# Altium footprint library 400101.PcbLib: 19 footprints (part 1 of 2)
Each footprint in its own frame and in the unit in brackets; x right, y up, seen from the top. Pads: shape width x height; smd on the part's side, far side on the other; paste and mask are expansions set on the pad; w line width, h text height; cw(c..) or ccw(c..) is an arc to the next point about the centre after c.
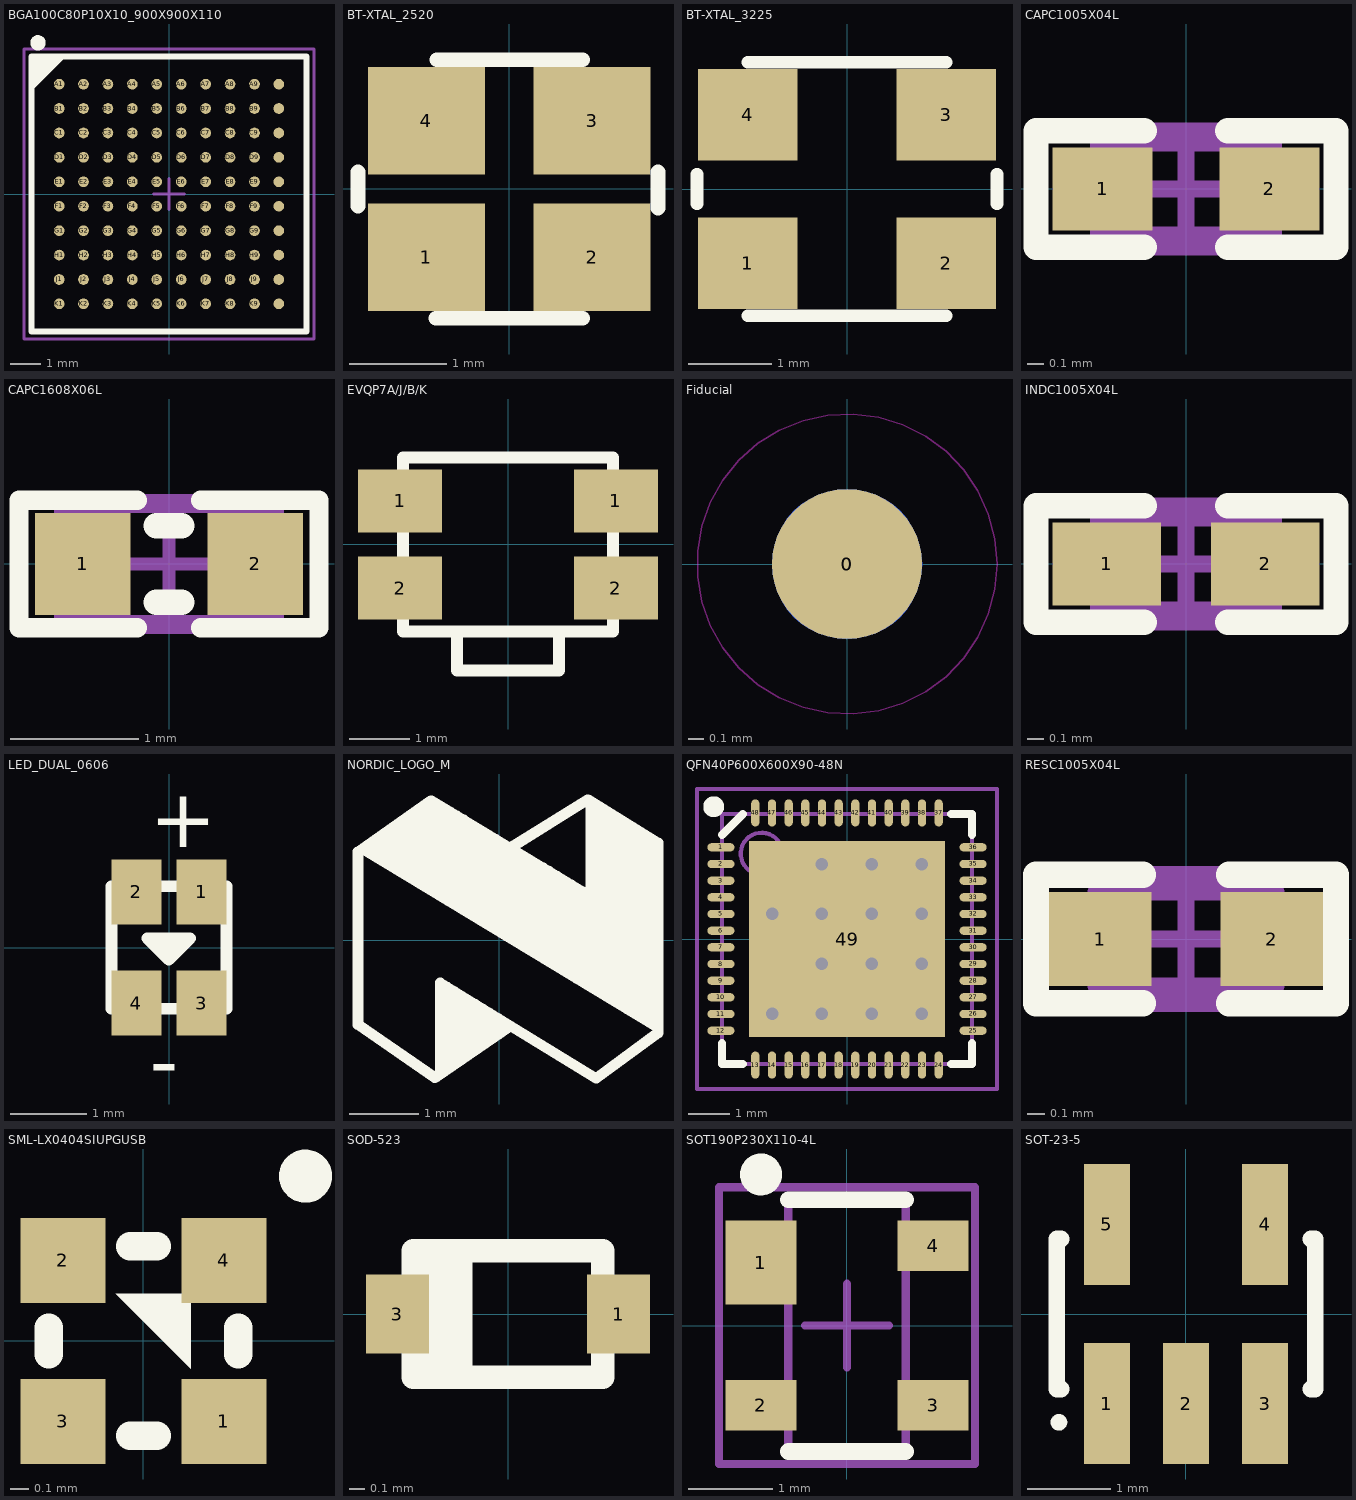
[diagram p0: the footprints below, top view; thin cyan lines are the x and y axes]

## BGA100C80P10X10_900X900X110 [mm]
pads (100):
  round 0.35 smd: A1(-3.6,3.6) A2(-2.8,3.6) A3(-2,3.6) A4(-1.2,3.6) A5(-0.4,3.6) A6(0.4,3.6) A7(1.2,3.6) A8(2,3.6) A9(2.8,3.6) A10(3.6,3.6) B1(-3.6,2.8) B2(-2.8,2.8) B3(-2,2.8) B4(-1.2,2.8) B5(-0.4,2.8) B6(0.4,2.8) B7(1.2,2.8) B8(2,2.8) B9(2.8,2.8) B10(3.6,2.8) C1(-3.6,2) C2(-2.8,2) C3(-2,2) C4(-1.2,2) C5(-0.4,2) C6(0.4,2) C7(1.2,2) C8(2,2) C9(2.8,2) C10(3.6,2) D1(-3.6,1.2) D2(-2.8,1.2) D3(-2,1.2) D4(-1.2,1.2) D5(-0.4,1.2) D6(0.4,1.2) D7(1.2,1.2) D8(2,1.2) D9(2.8,1.2) D10(3.6,1.2) E1(-3.6,0.4) E2(-2.8,0.4) E3(-2,0.4) E4(-1.2,0.4) E5(-0.4,0.4) E6(0.4,0.4) E7(1.2,0.4) E8(2,0.4) E9(2.8,0.4) E10(3.6,0.4) F1(-3.6,-0.4) F2(-2.8,-0.4) F3(-2,-0.4) F4(-1.2,-0.4) F5(-0.4,-0.4) F6(0.4,-0.4) F7(1.2,-0.4) F8(2,-0.4) F9(2.8,-0.4) F10(3.6,-0.4) G1(-3.6,-1.2) G2(-2.8,-1.2) G3(-2,-1.2) G4(-1.2,-1.2) G5(-0.4,-1.2) G6(0.4,-1.2) G7(1.2,-1.2) G8(2,-1.2) G9(2.8,-1.2) G10(3.6,-1.2) H1(-3.6,-2) H2(-2.8,-2) H3(-2,-2) H4(-1.2,-2) H5(-0.4,-2) H6(0.4,-2) H7(1.2,-2) H8(2,-2) H9(2.8,-2) H10(3.6,-2) J1(-3.6,-2.8) J2(-2.8,-2.8) J3(-2,-2.8) J4(-1.2,-2.8) J5(-0.4,-2.8) J6(0.4,-2.8) J7(1.2,-2.8) J8(2,-2.8) J9(2.8,-2.8) J10(3.6,-2.8) K1(-3.6,-3.6) K2(-2.8,-3.6) K3(-2,-3.6) K4(-1.2,-3.6) K5(-0.4,-3.6) K6(0.4,-3.6) K7(1.2,-3.6) K8(2,-3.6) K9(2.8,-3.6) K10(3.6,-3.6)
Top Overlay:
  circle w0.25: c-4.293,4.953 r0.125
  region: -3.513,4.5 -4.5,3.513 -4.5,4.5
  lines w0.2: -4.5,3.513 -3.513,4.5 ; -4.5,-4.5 -4.5,4.5 4.5,4.5 4.5,-4.5 -4.5,-4.5
Mechanical 13:
  lines w0.1: -4.5,-4.5 -4.5,4.5 4.5,4.5 4.5,-4.5 -4.5,-4.5
Mechanical 15:
  lines w0.1: -0.5,0 0.5,0 ; 0,-0.5 0,0.5 ; -4.75,-4.75 -4.75,4.75 4.75,4.75 4.75,-4.75 -4.75,-4.75
3D body: height 1.1, standoff 0.25, extent -4.5,-4.5 4.5,4.5

## BT-XTAL_2520 [mm]
pads (4):
  rect 1.2x1.1 smd: 1(-0.85,-0.7) 2(0.85,-0.7) 3(0.85,0.7) 4(-0.85,0.7)
Top Overlay:
  lines w0.152: -1.55,-0.175 -1.55,0.175 ; -0.75,-1.325 0.75,-1.325 ; -0.74,1.325 0.75,1.325 ; 1.525,-0.195 1.525,0.175
3D body: height 0.56, standoff 0, extent -1.25,-1 1.27,1
3D body: height 0.56, standoff 0.15, extent -1.05,-0.8 1.05,0.8

## BT-XTAL_3225 [mm]
pads (4):
  rect 1.2x1.1 smd: 1(-1.194,-0.89) 2(1.194,-0.89) 3(1.194,0.891) 4(-1.194,0.891)
Top Overlay:
  lines w0.152: -1.803,-0.178 -1.803,0.178 ; -1.194,-1.524 1.194,-1.524 ; -1.194,1.524 1.194,1.524 ; 1.803,-0.178 1.803,0.178
3D body: height 0.81, standoff 0, extent -1.6,-1.25 1.614,1.25
3D body: height 0.81, standoff 0.15, extent -1.4,-1.05 1.4,1.05

## CAPC1005X04L [mm]
pads (2):
  rect 0.6x0.5 smd: 1(-0.5,0) 2(0.5,0)
Top Overlay:
  lines w0.152: -0.25,-0.35 -0.9,-0.35 -0.9,0.35 -0.25,0.35 ; 0.25,-0.35 0.9,-0.35 0.9,0.35 0.25,0.35
Mechanical 13:
  lines w0.1: -0.525,-0.275 -0.525,0.275 0.525,0.275 0.525,-0.275 -0.525,-0.275
Mechanical 15:
  lines w0.1: -0.275,0 0.275,0 ; 0,-0.275 0,0.275 ; -0.9,-0.35 0.9,-0.35 0.9,0.35 -0.9,0.35 -0.9,-0.35
3D body: height 0.5, standoff -0.01, extent -0.508,-0.254 0.508,0.254

## CAPC1608X06L [mm]
pads (2):
  rect 0.75x0.8 smd: 1(-0.675,0) 2(0.675,0)
Top Overlay:
  lines w0.152: -0.25,-0.5 -1.175,-0.5 -1.175,0.5 -0.25,0.5 ; 0.25,-0.5 1.175,-0.5 1.175,0.5 0.25,0.5
  lines w0.2: -0.1,-0.3 0.1,-0.3 ; -0.1,0.3 0.1,0.3
Mechanical 13:
  lines w0.1: -0.85,-0.45 -0.85,0.45 0.85,0.45 0.85,-0.45 -0.85,-0.45
Mechanical 15:
  lines w0.1: -0.45,0 0.45,0 ; 0,-0.45 0,0.45 ; -1.175,-0.5 1.175,-0.5 1.175,0.5 -1.175,0.5 -1.175,-0.5
3D body: height 0.8, standoff 0, extent -0.8,-0.43 0.8,0.43

## EVQP7A/J/B/K [mm]
pads (4):
  rect 1.4x1.05 smd: 1(-1.8,0.725) 1(1.8,0.725) 2(-1.8,-0.725) 2(1.8,-0.725)
Top Overlay:
  lines w0.2: -0.85,-1.45 -0.85,-2.1 0.85,-2.1 0.85,-1.45 ; -1.75,-1.45 -1.75,1.45 1.75,1.45 1.75,-1.45 -1.75,-1.45
3D body: height 1.35, standoff 0, extent -2.35,-2.1 2.35,1.45

## Fiducial [mm]
pads (2):
  round 1 smd paste-10 mask+0.5: 0(0,0)
  round 1 smd far side paste-10 mask+0.5: 0(0,0)
Keep-Out Layer:
  circle w0.01: c0,0 r1

## INDC1005X04L [mm]
pads (2):
  rect 0.65x0.5 smd: 1(-0.475,0) 2(0.475,0)
Top Overlay:
  lines w0.152: -0.25,-0.35 -0.9,-0.35 -0.9,0.35 -0.25,0.35 ; 0.25,-0.35 0.9,-0.35 0.9,0.35 0.25,0.35
Mechanical 13:
  lines w0.1: -0.525,-0.275 0.525,-0.275 0.525,0.275 -0.525,0.275 -0.525,-0.275
Mechanical 15:
  lines w0.1: -0.275,0 0.275,0 ; 0,-0.275 0,0.275 ; -0.9,-0.35 0.9,-0.35 0.9,0.35 -0.9,0.35 -0.9,-0.35
3D body: height 0.5, standoff 0, extent -0.5,-0.3 0.5,0.3

## LED_DUAL_0606 [mm]
pads (4):
  rect 0.65x0.85 smd paste+0: 1(0.425,0.725) 2(-0.425,0.725) 3(0.425,-0.725) 4(-0.425,-0.725)
Top Overlay:
  region: -0.285,0.12 -0.005,-0.16 0.275,0.12
  lines w0.15: -0.75,-0.8 0.75,-0.8 ; -0.75,0.8 0.75,0.8
  lines w0.152: -0.75,-0.8 -0.75,0.8 ; 0.75,-0.8 0.75,0.8 ; -0.285,0.12 0.275,0.12 -0.005,-0.16 -0.285,0.12
  text "+" at -0.254,1.305 h0.76
  text "-" at -0.254,-1.845 h0.76
3D body: height 0.36, standoff 0.18, extent 0.235,-0.15 0.535,0.15
3D body: height 0.36, standoff 0.18, extent -0.525,-0.15 -0.225,0.15
3D body: height 0.55, standoff 0.18, extent -0.75,-0.55 0.75,0.55
3D body: height 0.18, standoff 0, extent -0.75,-0.8 0.75,0.8

## NORDIC_LOGO_M [mm]
Top Overlay:
  lines w0.152: -1.94,1.3 2.276,-1.25 ; -1.857,1.25 -0.876,1.93 ; -1.768,1.203 -0.788,1.891 ; -1.683,1.147 -0.697,1.839 ; -1.602,1.098 -0.615,1.79 ; -1.502,1.036 -0.515,1.729 ; -1.399,0.979 -0.417,1.668 ; -1.32,0.925 -0.332,1.619 ; -1.223,0.868 -0.237,1.56 ; -1.136,0.825 -0.157,1.512 ; -1.039,0.759 -0.055,1.449 ; -0.937,0.696 0.05,1.389 ; -0.93,-1.97 -2.03,-1.209 -2.03,1.27 -0.98,2.007 1.26,0.66 0.254,-0.025 ; -0.9,-1.956 0.16,-1.23 ; -0.85,-1.915 -0.85,-0.61 1.39,-1.98 2.276,-1.33 ; -0.832,0.633 0.17,1.336 ; -0.76,-1.85 -0.76,-0.668 ; -0.734,0.572 0.253,1.265 ; -0.64,-1.77 -0.64,-0.74 ; -0.638,0.517 0.343,1.205 ; -0.545,-1.71 -0.545,-0.8 ; -0.54,0.46 0.441,1.149 ; -0.461,0.411 0.523,1.102 ; -0.447,-1.64 -0.447,-0.86 ; -0.357,0.346 0.63,1.039 ; -0.35,-1.579 -0.35,-0.92 ; -0.274,0.295 0.714,0.988 ; -0.23,-1.497 -0.23,-0.99 ; -0.157,0.226 0.829,0.919 ; -0.14,-1.435 -0.14,-1.044 ; -0.052,0.163 0.933,0.855 ; -0.01,-1.346 -0.01,-1.124 ; 0.048,0.103 1.033,0.795 ; 0.138,0.044 1.144,0.711 ; 0.16,1.33 1.27,2.02 2.276,1.4 ; 0.22,-0.006 1.2,0.696 ; 0.305,-0.051 1.312,0.673 2.276,0.08 ; 0.426,-0.125 1.42,0.573 ; 0.534,-0.185 1.524,0.51 ; 0.635,-0.253 1.63,0.446 ; 0.741,-0.322 1.74,0.379 ; 0.836,-0.374 1.83,0.324 ; 0.932,-0.423 1.92,0.27 ; 1,-0.47 1.985,0.23 ; 1.103,-0.54 2.1,0.16 ; 1.238,-0.618 2.232,0.08 ; 1.31,0.73 1.31,1.99 ; 1.312,0.723 2.276,0.13 ; 1.312,0.853 2.276,0.26 ; 1.312,0.943 2.276,0.35 ; 1.312,1.073 2.276,0.48 ; 1.312,1.193 2.276,0.6 ; 1.312,1.273 2.276,0.68 ; 1.312,1.413 2.276,0.82 ; 1.312,1.533 2.276,0.94 ; 1.312,1.653 2.276,1.06 ; 1.312,1.743 2.276,1.15 ; 1.312,1.883 2.276,1.29 ; 1.325,-0.671 2.276,0.008 ; 1.435,-0.738 2.276,-0.136 ; 1.549,-0.809 2.276,-0.287 ; 1.645,-0.865 2.276,-0.411 ; 1.733,-0.916 2.276,-0.527 ; 1.829,-0.978 2.276,-0.651 ; 1.911,-1.028 2.276,-0.759 ; 2.025,-1.095 2.276,-0.908 ; 2.144,-1.166 2.276,-1.062 ; 2.276,-1.32 2.276,1.396

## QFN40P600X600X90-48N [mm]
pads (49):
  oval 0.65x0.2 smd: 1(-3.025,2.2) 2(-3.025,1.8) 3(-3.025,1.4) 4(-3.025,1) 5(-3.025,0.6) 6(-3.025,0.2) 7(-3.025,-0.2) 8(-3.025,-0.6) 9(-3.025,-1) 10(-3.025,-1.4) 11(-3.025,-1.8) 12(-3.025,-2.2) 25(3.025,-2.2) 26(3.025,-1.8) 27(3.025,-1.4) 28(3.025,-1) 29(3.025,-0.6) 30(3.025,-0.2) 31(3.025,0.2) 32(3.025,0.6) 33(3.025,1) 34(3.025,1.4) 35(3.025,1.8) 36(3.025,2.2)
  oval 0.2x0.65 smd: 13(-2.2,-3.025) 14(-1.8,-3.025) 15(-1.4,-3.025) 16(-1,-3.025) 17(-0.6,-3.025) 18(-0.2,-3.025) 19(0.2,-3.025) 20(0.6,-3.025) 21(1,-3.025) 22(1.4,-3.025) 23(1.8,-3.025) 24(2.2,-3.025) 37(2.2,3.025) 38(1.8,3.025) 39(1.4,3.025) 40(1,3.025) 41(0.6,3.025) 42(0.2,3.025) 43(-0.2,3.025) 44(-0.6,3.025) 45(-1,3.025) 46(-1.4,3.025) 47(-1.8,3.025) 48(-2.2,3.025)
  rect 4.7x4.7 smd: 49(0,0)
via -0.6,1.8 diameter 0.5 hole 0.3
via 0.6,1.8 diameter 0.5 hole 0.3
via 1.8,1.8 diameter 0.5 hole 0.3
via -1.8,0.6 diameter 0.5 hole 0.3
via -0.6,0.6 diameter 0.5 hole 0.3
via 0.6,0.6 diameter 0.5 hole 0.3
via 1.8,0.6 diameter 0.5 hole 0.3
via -0.6,-0.6 diameter 0.5 hole 0.3
via 0.6,-0.6 diameter 0.5 hole 0.3
via 1.8,-0.6 diameter 0.5 hole 0.3
via -1.8,-1.8 diameter 0.5 hole 0.3
via -0.6,-1.8 diameter 0.5 hole 0.3
via 0.6,-1.8 diameter 0.5 hole 0.3
via 1.8,-1.8 diameter 0.5 hole 0.3
Top Overlay:
  circle w0.25: c-3.2,3.175 r0.125
  lines w0.2: -3,-2.5 -3,-3 -2.5,-3 ; -3,2.5 -2.5,3 ; 2.5,-3 3,-3 3,-2.5 ; 2.5,3 3,3 3,2.5
Mechanical 13:
  circle w0.1: c-2.05,2.05 r0.5
  lines w0.1: -3,-3 -3,3 3,3 3,-3 -3,-3
Mechanical 15:
  lines w0.1: -0.5,0 0.5,0 ; 0,-0.5 0,0.5 ; -3.6,-3.6 -3.6,3.6 3.6,3.6 3.6,-3.6 -3.6,-3.6
3D body: height 0.9, standoff 0, extent -3,-3 3,3

## RESC1005X04L [mm]
pads (2):
  rect 0.6x0.55 smd: 1(-0.5,0) 2(0.5,0)
Top Overlay:
  lines w0.152: -0.25,-0.375 -0.875,-0.375 -0.875,0.375 -0.25,0.375 ; 0.25,-0.375 0.875,-0.375 0.875,0.375 0.25,0.375
Mechanical 13:
  lines w0.1: -0.525,-0.275 0.525,-0.275 0.525,0.275 -0.525,0.275 -0.525,-0.275
Mechanical 15:
  lines w0.1: -0.275,0 0.275,0 ; 0,-0.275 0,0.275 ; -0.875,-0.375 -0.875,0.375 0.875,0.375 0.875,-0.375 -0.875,-0.375
3D body: height 0.3, standoff 0, extent -0.5,-0.25 0.5,0.25

## SML-LX0404SIUPGUSB [mm]
pads (4):
  rect 0.45x0.45 smd paste+0: 1(0.425,-0.425) 2(-0.425,0.425) 3(-0.425,-0.425) 4(0.425,0.425)
Top Overlay:
  circle w0.152: c0.856,0.87 r0.064
  region: 0.25,0.25 -0.146,0.25 0.25,-0.146
  lines w0.15: -0.5,-0.07 -0.5,0.07 ; -0.07,-0.5 0.07,-0.5 ; -0.07,0.5 0.07,0.5 ; 0.5,-0.07 0.5,0.07
3D body: height 0.12, standoff 0, extent -0.5,-0.5 0.5,0.5
3D body: height 0.15, standoff 0.12, extent 0.2,0.2 0.5,0.5
3D body: height 0.15, standoff 0.12, extent -0.5,0.2 -0.2,0.5
3D body: height 0.15, standoff 0.12, extent -0.5,-0.5 -0.2,-0.2
3D body: height 0.15, standoff 0.12, extent 0.2,-0.5 0.5,-0.2
3D body: height 0.15, standoff 0.13, extent -0.5,-0.35 0.5,0.35
3D body: height 0.25, standoff 0.15, extent -0.5,-0.35 0.5,0.35
3D body: height 0.2, standoff 0.15, extent -0.185,-0.055 0.185,0.055
3D body: height 0.2, standoff 0.15, extent -0.135,0.075 0.14,0.185
3D body: height 0.2, standoff 0.15, extent -0.135,-0.185 0.14,-0.075
3D body: height 0.13, standoff 0, extent -0.495,-0.495 0.495,0.495

## SOD-523 [mm]
pads (2):
  rect 0.4x0.5 smd: 1(0.7,0) 3(-0.7,0)
Top Overlay:
  lines w0.15: -0.5,-0.4 -0.5,0.4 ; -0.4,-0.4 -0.4,0.4 ; -0.3,-0.4 -0.3,0.4 ; -0.6,-0.4 -0.6,0.4 0.6,0.4 0.6,-0.4 -0.6,-0.4
3D body: height 0.7, standoff 0, extent -0.8,-0.399 0.8,0.399

## SOT190P230X110-4L [mm]
pads (4):
  rect 0.85x1 smd: 1(-1.025,0.75)
  rect 0.85x0.6 smd: 2(-1.025,-0.95) 3(1.025,-0.95) 4(1.025,0.95)
Top Overlay:
  circle w0.25: c-1.025,1.8 r0.125
  lines w0.2: -0.7,-1.5 0.7,-1.5 ; -0.7,1.5 0.7,1.5
Mechanical 13:
  lines w0.1: -0.7,-1.5 -0.7,1.5 0.7,1.5 0.7,-1.5 -0.7,-1.5
Mechanical 15:
  lines w0.1: -0.5,0 0.5,0 ; 0,-0.5 0,0.5 ; -1.525,-1.65 -1.525,1.65 1.525,1.65 1.525,-1.65 -1.525,-1.65
3D body: height 1, standoff 0, extent -1.21,-1.46 1.21,1.46

## SOT-23-5 [mm]
pads (5):
  rect 0.55x1.45 smd: 1(-0.95,-1.075) 2(0,-1.075) 3(0.95,-1.075) 4(0.95,1.075) 5(-0.95,1.075)
Top Overlay:
  circle w0.1: c-1.525,-1.3 r0.05
  lines w0.2: -1.5,-0.9 -1.55,-0.9 -1.55,0.9 -1.5,0.9 ; 1.5,-0.9 1.55,-0.9 1.55,0.9 1.5,0.9
3D body: height 1.3, standoff 0, extent -1.5,-1.5 1.5,1.5